# EAGLE library part SICHERUNGSLASTTRENNSCHALTER_3P (library pkess_sicherungen)
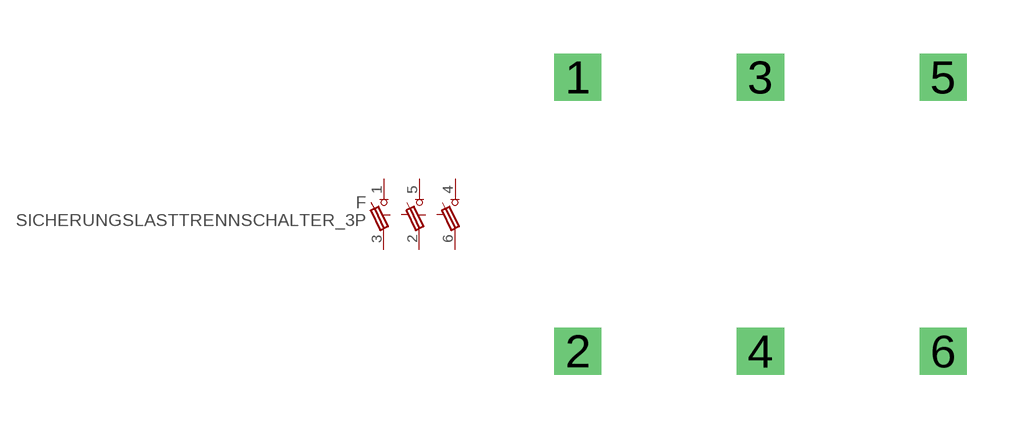
[diagram p0: symbol with the pads of SICHERUNGSLASTTRENNSCHALTER_3P; footprint SICHERUNGSLASTTRENNSCHALTER_3P]

Designator prefix F

## SICHERUNGSLASTTRENNSCHALTER_3P  [SICHERUNGSLASTTRENNSCHALTER_3P]
1  1  pas
2  4  pas
3  2  pas
4  5  pas
5  3  pas
6  6  pas

## Footprint SICHERUNGSLASTTRENNSCHALTER_3P (pad centres in mm)
drill 0.8 square: 1 0,0; 2 0,-7.62; 3 5.08,0; 4 5.08,-7.62; 5 10.16,0; 6 10.16,-7.62